# Altium schematic symbol library PIN.SchLib: 1 symbol
Pins are listed as number, name and electrical type; pins without a type are passive.

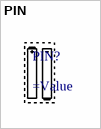
[diagram p0: symbol PIN]

## PIN
designator PIN?  (mechanical)
=Description